# Altium schematic symbol library SMV1211.Schlib: 1 symbol
Pins are listed as number, name and electrical type; pins without a type are passive.

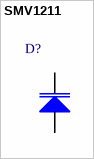
[diagram p0: symbol SMV1211]

## SMV1211
designator D?  (value not drawn)
pins: 1 A, 2 A, 3 K